# EAGLE library part ADF4118BRUZ (library ruark2)
IC PLL FREQ SYNTHESIZER 16-TSSOP 3GHz
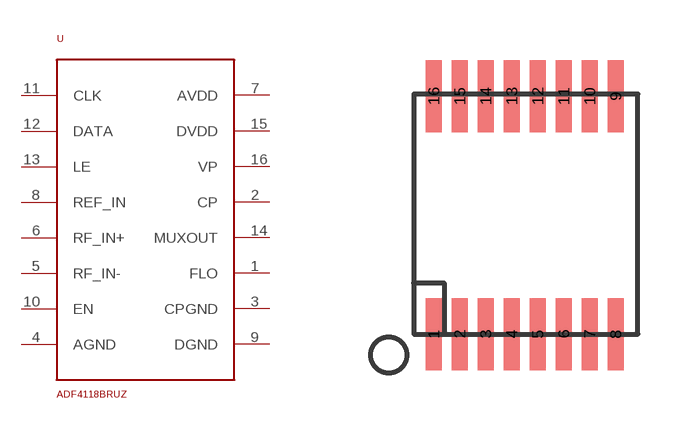
[diagram p65: symbol with the pads of TSSOP16; footprint TSSOP16]

Designator prefix U

## ADF4118BRUZ (PARTNO: ADF4118BRUZ-ND; VALUE: ADF4118)  [TSSOP16]
1  FLO
2  CP
3  CPGND
4  AGND
5  RF_IN-
6  RF_IN+
7  AVDD
8  REF_IN
9  DGND
10  EN
11  CLK
12  DATA
13  LE
14  MUXOUT
15  DVDD
16  VP

## Footprint TSSOP16 (pad centres in mm)
smd 0.4 x 1.8: 1 -2.275,-2.975; 2 -1.625,-2.975; 3 -0.975,-2.975; 4 -0.325,-2.975; 5 0.325,-2.975; 6 0.975,-2.975; 7 1.625,-2.975; 8 2.275,-2.975; 9 2.275,2.975; 10 1.625,2.975; 11 0.975,2.975; 12 0.325,2.975; 13 -0.325,2.975; 14 -0.975,2.975; 15 -1.625,2.975; 16 -2.275,2.975